# Altium footprint library Cloud_Buck_Footprints.PcbLib: 21 footprints (part 1 of 2)
Each footprint in its own frame and in the unit in brackets; x right, y up, seen from the top. Pads: shape width x height; smd on the part's side, far side on the other; paste and mask are expansions set on the pad; w line width, h text height; cw(c..) or ccw(c..) is an arc to the next point about the centre after c.
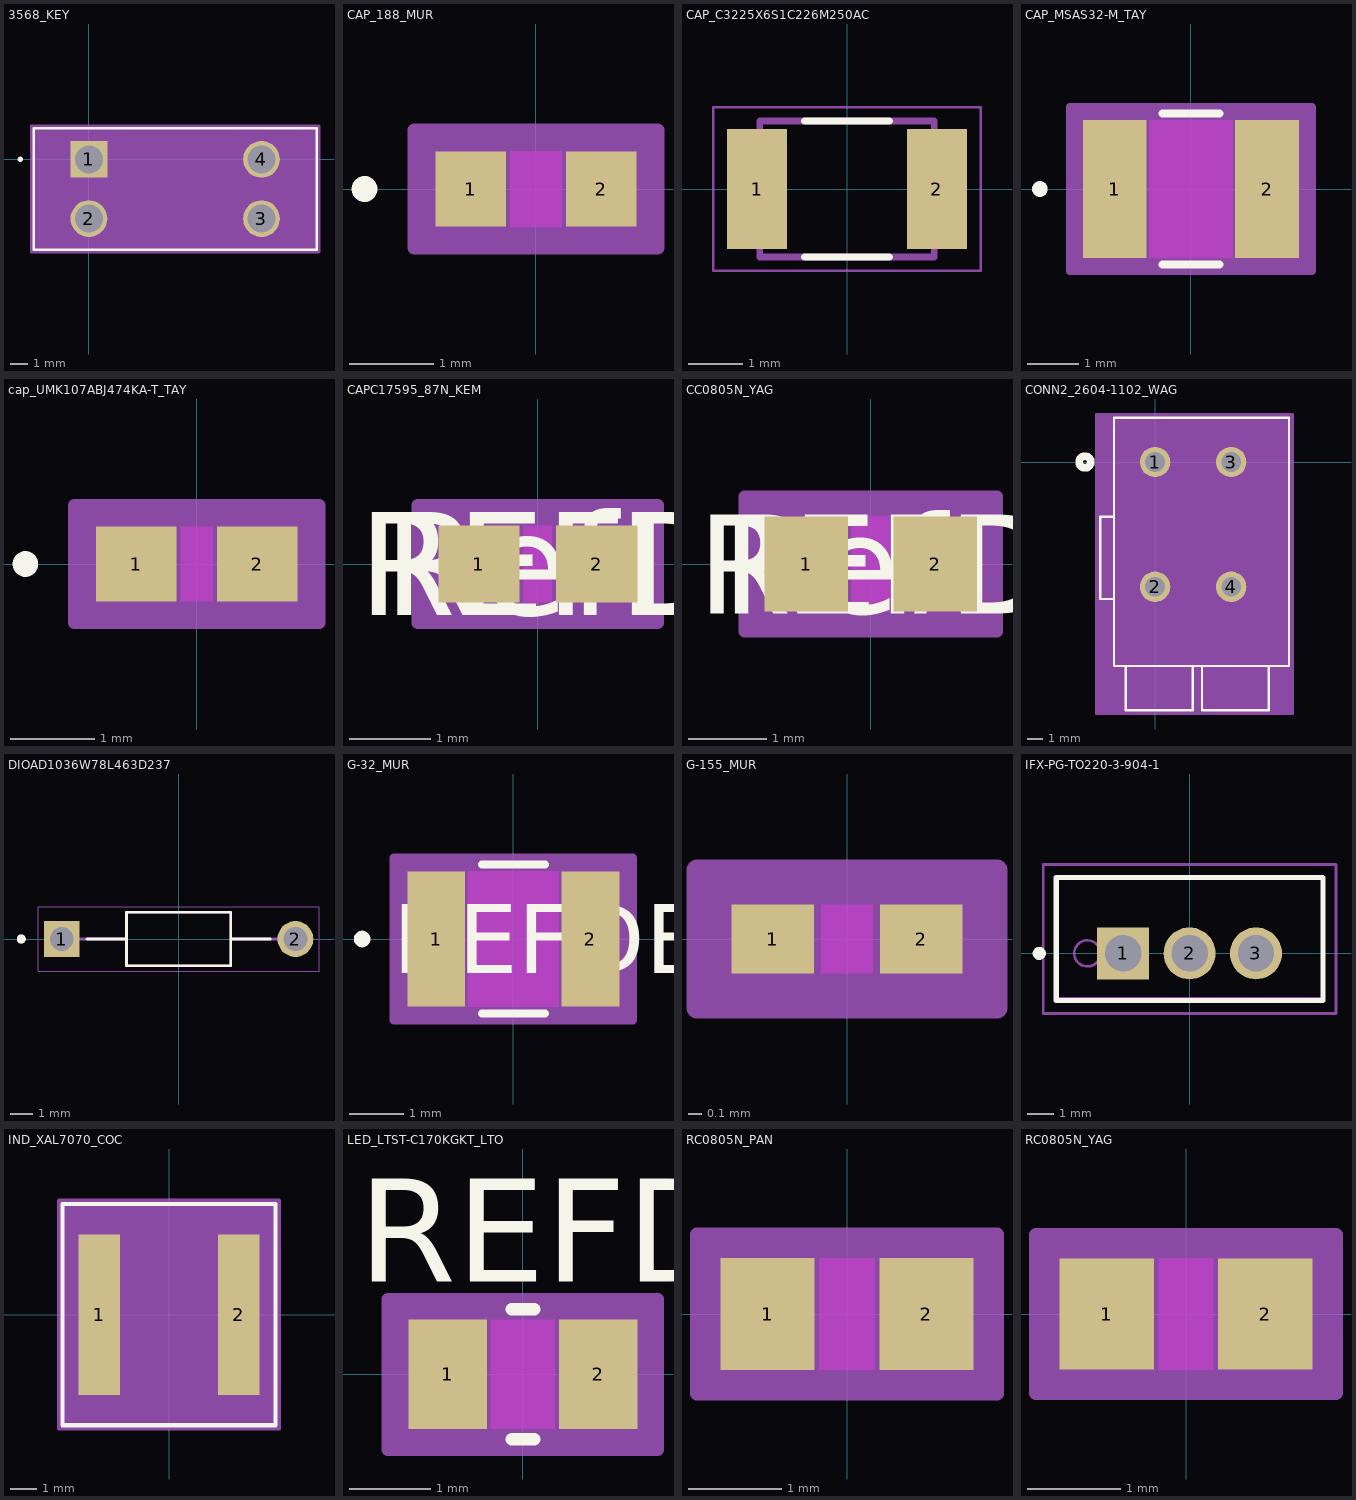
[diagram p0: the footprints below, top view; thin cyan lines are the x and y axes]

## 3568_KEY [mil]
pads (4):
  rect 83x83 hole 63 paste-99999 mask+0: 1(0,0)
  round 83 hole 63 paste-99999 mask+0: 2(0,-134) 3(390,-134) 4(390,0)
Top Overlay:
  circle w6: c-155,0 r3
  lines w6: -125,-204.5 -125,70.5 515,70.5 515,-204.5 -125,-204.5
  text ".Designator" at 57.5,-92 h50
Mechanical 13:
  circle w1: c-61.5,0 r3
  lines w1: -120,-199.5 -120,65.5 510,65.5 510,-199.5 -120,-199.5
  text ".Designator" at 57.5,-92 h50
Mechanical 15:
  region: 520,-209.5 -130,-209.5 -130,75.5 520,75.5
  lines w6: -130,-209.5 520,-209.5 520,75.5 -130,75.5 -130,-209.5

## CAP_188_MUR [mil]
pads (2):
  rect 32.78x35 smd paste+0 mask+0: 1(-30.39,0) 2(30.39,0)
Top Layer keep-out:
  region: -12,-15.5 -12,15.5 12,15.5 12,-15.5
Top Overlay:
  circle w6: c-79.78,0 r3
  text ".Designator" at -137.5,-25 h50
Keep-Out Layer:
  region: -12,-17.5 -12,17.5 12,17.5 12,-17.5
Mechanical 13:
  circle w1: c-25.39,0 r3
  lines w1: -33,-17.5 -33,17.5 ; -33,-17.5 -14,-17.5 -14,17.5 -33,17.5 ; -33,-17.5 33,-17.5 ; -33,-17.5 -33,17.5 ; -33,17.5 33,17.5 ; 33,-17.5 14,-17.5 14,17.5 33,17.5 ; 33,-17.5 33,17.5 ; 33,-17.5 33,17.5
  text ".Designator" at -137.5,-25 h50
Mechanical 15:
  region: 56.78,-27.5 -56.78,-27.5 -56.78,27.5 56.78,27.5
  lines w6: -56.78,-27.5 -56.78,27.5 56.78,27.5 56.78,-27.5 -56.78,-27.5
3D body "CAP_188_MUR.step": height 35, standoff 0, extent -32.99,-17.48 32.99,17.48

## CAP_C3225X6S1C226M250AC [mm]
height 2.8
pads (2):
  rect 1.1x2.2 smd paste+0 mask+0.102: 1(-1.65,0) 2(1.65,0)
Top Overlay:
  lines w0.127: -0.78,-1.25 0.78,-1.25 ; -0.78,1.25 0.78,1.25
Mechanical 13:
  lines w0.127: -1.6,-1.25 -1.6,1.25 1.6,1.25 1.6,-1.25 -1.6,-1.25
Mechanical 15:
  lines w0.05: -2.45,-1.5 -2.45,1.5 2.45,1.5 2.45,-1.5 -2.45,-1.5

## CAP_MSAS32-M_TAY [mil]
pads (2):
  rect 49x106 smd paste+0 mask+0: 1(-58.5,0) 2(58.5,0)
Top Layer keep-out:
  region: -32,-51 -32,51 32,51 32,-51
Top Overlay:
  circle w6: c-116,0 r3
  lines w6: -21.89,-58 21.89,-58 ; -21.89,58 21.89,58
  text ".Designator" at -137.5,-25 h50
Keep-Out Layer:
  region: -32,-53 -32,53 32,53 32,-53
Mechanical 13:
  circle w1: c-53.5,0 r3
  lines w1: -69,-53 -69,53 ; -69,-53 69,-53 ; -69,-53 -34,-53 -34,53 -69,53 ; -69,-53 -69,53 ; -69,53 69,53 ; 69,-53 69,53 ; 69,-53 69,53 ; 69,-53 34,-53 34,53 69,53
  text ".Designator" at -137.5,-25 h50
Mechanical 15:
  region: 93,-63 -93,-63 -93,63 93,63
  lines w6: -93,-63 93,-63 93,63 -93,63 -93,-63
3D body "CAP_MSAS32-M_TAY.step": height 105.98, standoff 0, extent -69.02,-52.99 69.02,52.99

## cap_UMK107ABJ474KA-T_TAY [mil]
pads (2):
  rect 37.78x35 smd paste+0 mask+0: 1(-28.39,0) 2(28.39,0)
Top Layer keep-out:
  region: -7.5,-15.5 -7.5,15.5 7.5,15.5 7.5,-15.5
Top Overlay:
  circle w6: c-80.28,0 r3
  text ".Designator" at -137.5,-25 h50
Keep-Out Layer:
  region: -7.5,-17.5 -7.5,17.5 7.5,17.5 7.5,-17.5
Mechanical 13:
  circle w1: c-23.39,0 r3
  lines w1: -33.5,-17.5 -33.5,17.5 ; -33.5,-17.5 -9.5,-17.5 -9.5,17.5 -33.5,17.5 ; -33.5,-17.5 33.5,-17.5 ; -33.5,-17.5 -33.5,17.5 ; -33.5,17.5 33.5,17.5 ; 33.5,-17.5 9.5,-17.5 9.5,17.5 33.5,17.5 ; 33.5,-17.5 33.5,17.5 ; 33.5,-17.5 33.5,17.5
  text ".Designator" at -137.5,-25 h50
Mechanical 15:
  region: 57.28,-27.5 -57.28,-27.5 -57.28,27.5 57.28,27.5
  lines w6: -57.28,-27.5 -57.28,27.5 57.28,27.5 57.28,-27.5 -57.28,-27.5
3D body "cap_UMK107ABJ474KA-T_TAY.step": height 35, standoff 0, extent -33.5,-17.48 33.5,17.48

## CAPC17595_87N_KEM [mm]
pads (2):
  rect 1.006x0.95 smd paste+0 mask+0: 1(-0.728,0) 2(0.728,0)
Top Layer keep-out:
  region: -0.174,-0.424 -0.174,0.424 0.174,0.424 0.174,-0.424
Top Overlay:
  text "RefDes" at -1.905,-0.635 h1.27
  text "REFDES" at -2.222,-0.635 h1.27
Keep-Out Layer:
  region: -0.174,-0.475 -0.174,0.475 0.174,0.475 0.174,-0.475
Mechanical 13:
  lines w0.025: -0.875,-0.475 -0.875,0.475 ; -0.875,-0.475 -0.375,-0.475 -0.375,0.475 -0.875,0.475 ; -0.875,-0.475 0.875,-0.475 ; -0.875,-0.475 -0.875,0.475 ; -0.875,0.475 0.875,0.475 ; 0.875,-0.475 0.375,-0.475 0.375,0.475 0.875,0.475 ; 0.875,-0.475 0.875,0.475 ; 0.875,-0.475 0.875,0.475
  text "RefDes2" at -2.222,-0.635 h1.27
Mechanical 15:
  region: 1.485,-0.729 -1.485,-0.729 -1.485,0.729 1.485,0.729
  lines w0.152: -1.485,-0.729 -1.485,0.729 1.485,0.729 1.485,-0.729 -1.485,-0.729
3D body "CAPC17595_87N_KEM.step": height 0.87, standoff 0, extent -0.875,-0.475 0.875,0.475

## CC0805N_YAG [mil]
pads (2):
  rect 42x48 smd paste+0 mask+0: 1(-32.5,0) 2(32.5,0)
Top Layer keep-out:
  region: -9.5,-22 -9.5,22 9.5,22 9.5,-22
Top Overlay:
  text "RefDes" at -75,-25 h50
  text "REFDES" at -87.5,-25 h50
Keep-Out Layer:
  region: -9.5,-24 -9.5,24 9.5,24 9.5,-24
Mechanical 13:
  lines w1: -39.5,-24 -39.5,24 ; -39.5,-24 -11.5,-24 -11.5,24 -39.5,24 ; -39.5,-24 39.5,-24 ; -39.5,-24 -39.5,24 ; -39.5,24 39.5,24 ; 39.5,-24 11.5,-24 11.5,24 39.5,24 ; 39.5,-24 39.5,24 ; 39.5,-24 39.5,24
  text "RefDes2" at -87.5,-25 h50
Mechanical 15:
  region: 63.5,-34 -63.5,-34 -63.5,34 63.5,34
  lines w6: -63.5,-34 -63.5,34 63.5,34 63.5,-34 -63.5,-34
3D body "CC0805N_YAG.step": height 27.99, standoff 0, extent -39.49,-24.02 39.49,24.02

## CONN2_2604-1102_WAG [mm]
pads (4):
  round 2 hole 1.3 paste-2539.97 mask+0: 1(0,0) 2(0,-8.2) 3(5,0) 4(5,-8.2)
Top Overlay:
  circle w0.508: c-4.605,0 r0.381
  lines w0.152: -2.7,-9 -3.6,-9 -3.6,-3.6 -2.7,-3.6 ; -1.92,-13.4 -1.92,-16.3 2.48,-16.3 2.48,-13.4 ; 3.08,-13.4 3.08,-16.3 7.48,-16.3 7.48,-13.4 ; -2.7,-13.4 8.8,-13.4 8.8,2.9 -2.7,2.9 -2.7,-13.4
  text ".Designator" at -0.443,-4.735 h1.27
Bottom Overlay:
  circle w0.508: c-4.605,0 r0.381
Mechanical 13:
  circle w0.508: c0,1.905 r0.381
  lines w0.025: -2.7,-9 -3.6,-9 -3.6,-3.6 -2.7,-3.6 ; -1.92,-13.4 -1.92,-16.3 2.48,-16.3 2.48,-13.4 ; 3.08,-13.4 3.08,-16.3 7.48,-16.3 7.48,-13.4 ; -2.7,-13.4 8.8,-13.4 8.8,2.9 -2.7,2.9 -2.7,-13.4
  text ".Designator" at -0.443,-4.735 h1.27
Mechanical 15:
  region: 9.054,3.154 -3.854,3.154 -3.854,-16.554 9.054,-16.554
  lines w0.152: -3.854,-16.554 -3.854,3.154 ; -3.854,-16.554 -3.854,3.154 ; -3.854,-16.554 9.054,-16.554 9.054,3.154 -3.854,3.154

## DIOAD1036W78L463D237 [mm]
height 2.72
pads (2):
  rect 1.59x1.59 / inner round 1.59 / far side rect 1.59x1.59 hole 1.06 mask+0.102: 1(-5.18,0)
  round 1.59 hole 1.06 mask+0.102: 2(5.18,0)
Top Overlay:
  circle w0.2: c-6.975,0 r0.1
  lines w0.127: -4.065,0 -2.315,0 ; 4.065,0 2.315,0 ; -2.315,0 -2.315,1.188 2.315,1.188 2.315,0 ; -2.315,0 -2.315,-1.188 2.315,-1.188 2.315,0
Mechanical 13:
  circle w0.2: c-6.975,0 r0.1
  lines w0.127: -5.18,0 -2.315,0 ; 5.18,0 2.315,0 ; -2.315,0 -2.315,1.188 2.315,1.188 2.315,0 ; -2.315,0 -2.315,-1.188 2.315,-1.188 2.315,0
Mechanical 15:
  lines w0.05: -6.225,-1.438 6.225,-1.438 6.225,1.438 -6.225,1.438 -6.225,-1.438
3D body "step_temp.STEP": height 2.72, standoff -21.76, extent -5.573,-1.36 5.573,1.36

## G-32_MUR [mil]
pads (2):
  rect 41.78x98 smd paste+0 mask+0: 1(-55.89,0) 2(55.89,0)
Top Layer keep-out:
  region: -33,-47 -33,47 33,47 33,-47
Top Overlay:
  circle w6: c-109.78,0 r3
  lines w6: -22.89,-54 22.89,-54 ; -22.89,54 22.89,54
  text "REFDES" at -87.5,-25 h50
Keep-Out Layer:
  region: -33,-49 -33,49 33,49 33,-49
Mechanical 13:
  circle w0: c-50.89,0 r3
  lines w1: -63,-49 -63,49 ; -63,-49 63,-49 ; -63,-49 -35,-49 -35,49 -63,49 ; -63,-49 -63,49 ; -63,49 63,49 ; 63,-49 63,49 ; 63,-49 63,49 ; 63,-49 35,-49 35,49 63,49
Mechanical 15:
  region: 86.78,-59 -86.78,-59 -86.78,59 86.78,59
  lines w6: -86.78,-59 86.78,-59 86.78,59 -86.78,59 -86.78,-59
3D body "G-32_MUR.step": height 110, standoff 0, extent -62.99,-49.02 62.99,49.02

## G-155_MUR [mil]
pads (2):
  rect 24x20 smd paste+0 mask+0: 1(-21.5,0) 2(21.5,0)
Top Layer keep-out:
  region: -7.5,-8 -7.5,8 7.5,8 7.5,-8
Top Overlay:
  text ".Designator" at -137.5,-25 h50
Keep-Out Layer:
  region: -7.5,-10 -7.5,10 7.5,10 7.5,-10
Mechanical 13:
  lines w1: -19.5,-10 -19.5,10 ; -19.5,-10 19.5,-10 ; -19.5,-10 -9.5,-10 -9.5,10 -19.5,10 ; -19.5,-10 -19.5,10 ; -19.5,10 19.5,10 ; 19.5,-10 19.5,10 ; 19.5,-10 19.5,10 ; 19.5,-10 9.5,-10 9.5,10 19.5,10
  text ".Designator" at -137.5,-25 h50
Mechanical 15:
  region: 43.5,-20 -43.5,-20 -43.5,20 43.5,20
  lines w6: -43.5,-20 43.5,-20 43.5,20 -43.5,20 -43.5,-20
3D body "G-155_MUR.step": height 22.01, standoff 0, extent -19.49,-10 19.49,10

## IFX-PG-TO220-3-904-1 [mm] "TO,flange mount,2.54 mm pitch, 3 pin, 10.16 mm L X 4.57 mm W X 20.56 mm H body"
height 20.56
pads (3):
  rect 1.99x1.99 hole 1.39 paste-2539.97 mask+0: 1(-2.54,0)
  round 1.99 hole 1.39 paste-2539.97 mask+0: 2(0,0) 3(2.54,0)
Top Overlay:
  circle w0.25: c-5.75,0 r0.125
  lines w0.2: -5.1,-1.8 -5.1,2.9 5.1,2.9 5.1,-1.8 -5.1,-1.8
Mechanical 3:
  text ".DESIGNATOR" at 0,0 h1.2
Mechanical 13:
  circle w0.1: c-3.912,0 r0.5
  lines w0.1: -5.08,-1.71 -5.08,2.86 5.08,2.86 5.08,-1.71 -5.08,-1.71
Mechanical 15:
  lines w0.1: -0.5,0 0.5,0 ; 0,-0.5 0,0.5 ; -5.6,-2.3 -5.6,3.4 5.6,3.4 5.6,-2.3 -5.6,-2.3
3D body "PG-TO220-3-904_Z8B00198139_V06_3D.stp": height 19.84, standoff -10.77, extent -5.156,-1.72 5.156,2.86

## IND_XAL7070_COC [mil]
pads (2):
  rect 61x236 smd paste+0 mask+0: 1(-102.5,0) 2(102.5,0)
Top Overlay:
  lines w6: -156.5,-162.5 -156.5,162.5 156.5,162.5 156.5,-162.5 -156.5,-162.5
  text ".Designator" at -137.5,-25 h50
Mechanical 13:
  circle w1: c-72,0 r3
  lines w1: -12,157.5 ccw(c0,157.5) 12,157.5 ; -151.5,-157.5 -151.5,157.5 151.5,157.5 151.5,-157.5 -151.5,-157.5
  text ".Designator" at -137.5,-25 h50
Mechanical 15:
  region: -161.5,-128 -161.5,128 -161.5,167.5 161.5,167.5 161.5,128 161.5,-128 161.5,-167.5 -161.5,-167.5
  lines w6: -161.5,-167.5 161.5,-167.5 161.5,-128 161.5,128 161.5,167.5 -161.5,167.5 -161.5,128 -161.5,-128 -161.5,-167.5
3D body "IND_XAL7070_COC.step": height 276.1, standoff 0, extent -151.5,-157.48 151.5,157.48

## LED_LTST-C170KGKT_LTO [mil]
pads (2):
  rect 38x53 smd paste+0 mask+0: 1(-36.5,0) 2(36.5,0)
Top Layer keep-out:
  region: -15.5,-24.5 -15.5,24.5 15.5,24.5 15.5,-24.5
Top Overlay:
  lines w6: -5.39,-31.5 5.39,-31.5 ; -5.39,31.5 5.39,31.5
  text "REFDES" at -80,45 h50
Keep-Out Layer:
  region: -15.5,-26.5 -15.5,26.5 15.5,26.5 15.5,-26.5
Mechanical 13:
  lines w1: -41.5,-26.5 -41.5,26.5 ; -41.5,-26.5 41.5,-26.5 ; -41.5,-26.5 -17.5,-26.5 -17.5,26.5 -41.5,26.5 ; -41.5,-26.5 -41.5,26.5 ; -41.5,26.5 41.5,26.5 ; 41.5,-26.5 41.5,26.5 ; 41.5,-26.5 41.5,26.5 ; 41.5,-26.5 17.5,-26.5 17.5,26.5 41.5,26.5
Mechanical 15:
  region: 65.5,-36.5 -65.5,-36.5 -65.5,36.5 65.5,36.5
  lines w6: -65.5,-36.5 65.5,-36.5 65.5,36.5 -65.5,36.5 -65.5,-36.5

## RC0805N_PAN [mm]
pads (2):
  rect 1.006x1.2 smd paste+0 mask+0: 1(-0.853,0) 2(0.853,0)
Top Layer keep-out:
  region: -0.299,-0.549 -0.299,0.549 0.299,0.549 0.299,-0.549
Top Overlay:
  text ".Designator" at -3.492,-0.635 h1.27
Keep-Out Layer:
  region: -0.299,-0.6 -0.299,0.6 0.299,0.6 0.299,-0.6
Mechanical 13:
  lines w0.025: -1,-0.6 -1,0.6 ; -1,-0.6 -0.35,-0.6 -0.35,0.6 -1,0.6 ; -1,-0.6 1,-0.6 ; -1,-0.6 -1,0.6 ; -1,0.6 1,0.6 ; 1,-0.6 0.35,-0.6 0.35,0.6 1,0.6 ; 1,-0.6 1,0.6 ; 1,-0.6 1,0.6
  text ".Designator" at -3.492,-0.635 h1.27
Mechanical 15:
  region: 1.61,-0.854 -1.61,-0.854 -1.61,0.854 1.61,0.854
  lines w0.152: -1.61,-0.854 -1.61,0.854 1.61,0.854 1.61,-0.854 -1.61,-0.854
3D body "RC0805N_PAN.step": height 0.71, standoff 0, extent -1,-0.6 1,0.6

## RC0805N_YAG [mil]
pads (2):
  rect 40x47 smd paste+0 mask+0: 1(-33.5,0) 2(33.5,0)
Top Layer keep-out:
  region: -11.5,-21.5 -11.5,21.5 11.5,21.5 11.5,-21.5
Top Overlay:
  text ".Designator" at -95,55 h50
Keep-Out Layer:
  region: -11.5,-23.5 -11.5,23.5 11.5,23.5 11.5,-23.5
Mechanical 13:
  lines w1: -39.5,-23.5 -39.5,23.5 ; -39.5,-23.5 39.5,-23.5 ; -39.5,-23.5 -13.5,-23.5 -13.5,23.5 -39.5,23.5 ; -39.5,-23.5 -39.5,23.5 ; -39.5,23.5 39.5,23.5 ; 39.5,-23.5 39.5,23.5 ; 39.5,-23.5 39.5,23.5 ; 39.5,-23.5 13.5,-23.5 13.5,23.5 39.5,23.5
Mechanical 15:
  region: 63.5,-33.5 -63.5,-33.5 -63.5,33.5 63.5,33.5
  lines w6: -63.5,-33.5 63.5,-33.5 63.5,33.5 -63.5,33.5 -63.5,-33.5
3D body "RC0805N_YAG.step": height 27.99, standoff 0, extent -39.49,-23.5 39.49,23.5